# Altium schematic symbol library SN65HVD3082.SchLib: 1 symbol
Pins are listed as number, name and electrical type; pins without a type are passive.

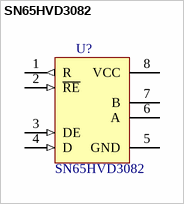
[diagram p0: symbol SN65HVD3082]

## SN65HVD3082
designator U?
Value: SN65HVD3082
footprint D008_N (8-Pin Small Outline Integrated Circuit 1.27 mm Pitch, IPC Medium Density)
pins: 1 R (out), 2 ~{RE} (in), 3 DE (in), 4 D (in), 5 GND (power), 6 A, 7 B, 8 VCC (power)